# Altium integrated library TI Power Management Supervisor and Reset IC.IntLib: 819 symbols (part 12 of 30)
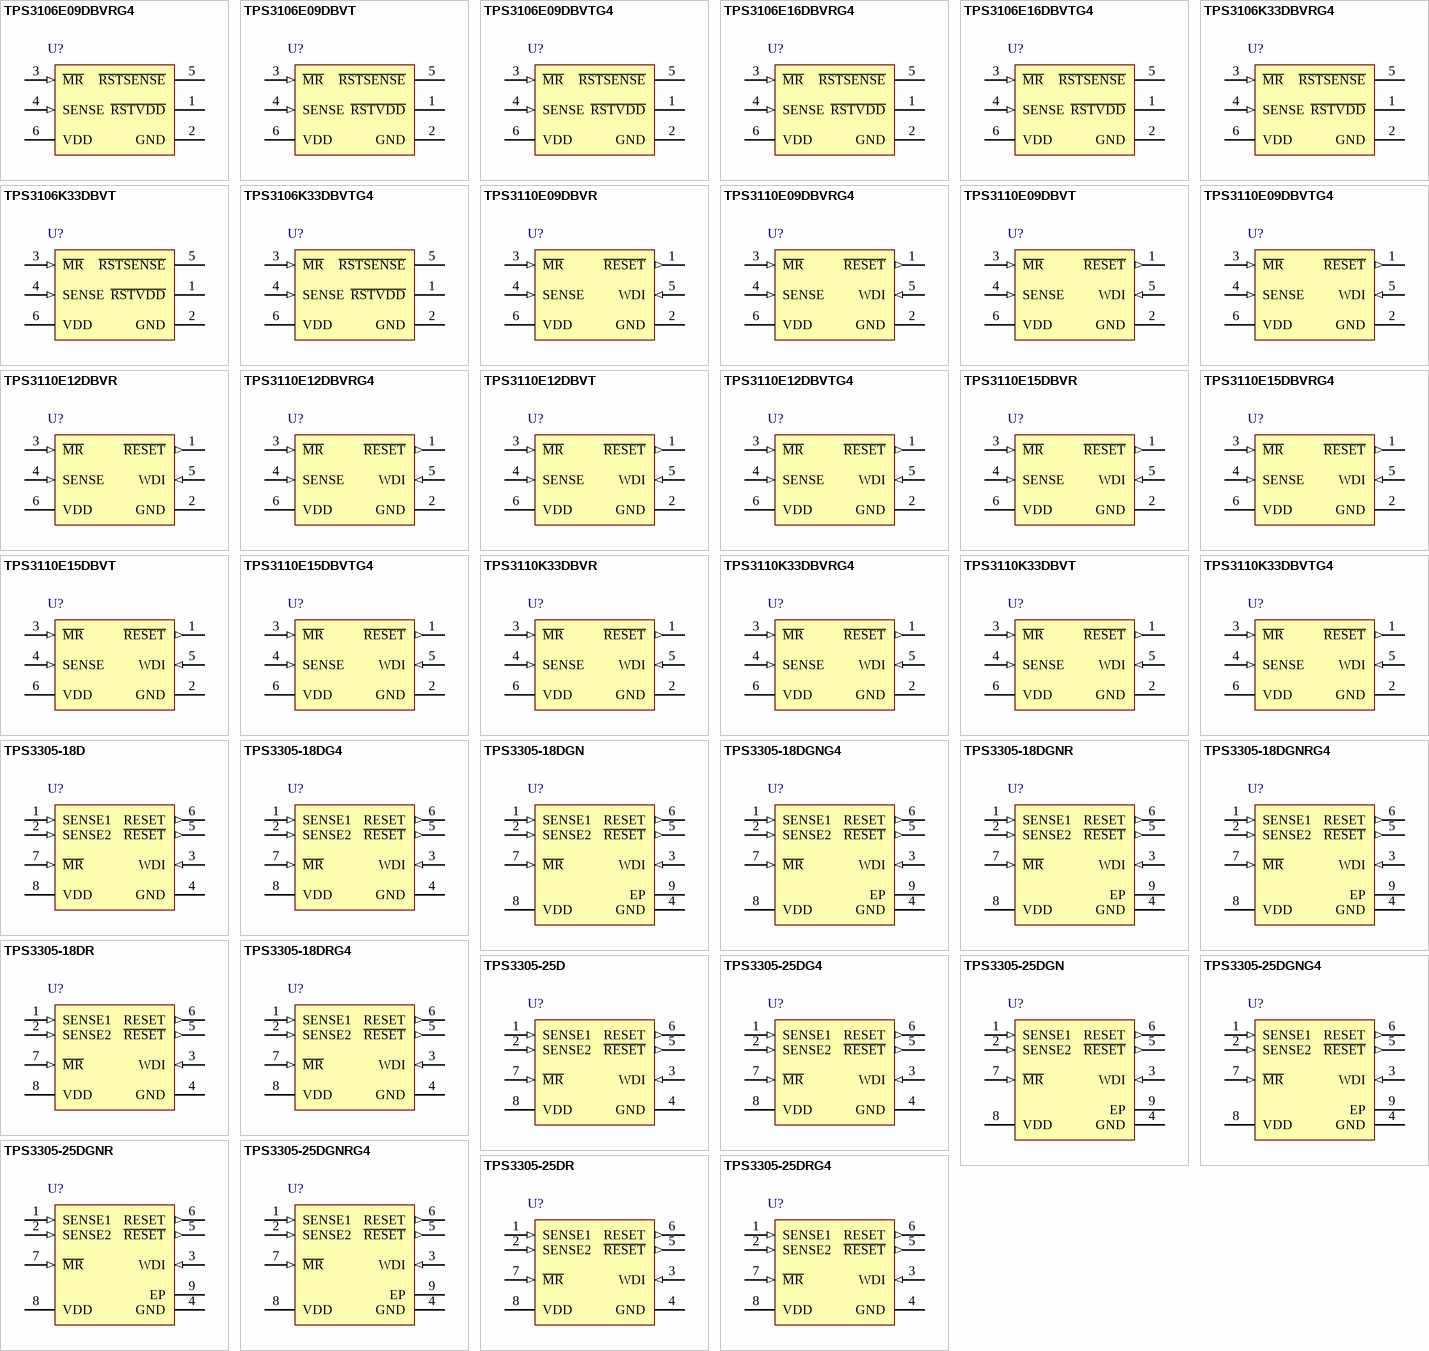
[diagram p32: symbols TPS3106E09DBVRG4 to TPS3305-25DRG4]

## TPS3110E09DBVR
designator U?
Ultra-Low Supply Current / Supply-Voltage Supervisory Circuit, 2 Supply Monitored, -40 to 85 degC, 6-pin SOT-23 (DBV), Green (RoHS & no Sb/Br); Manufacturer: Texas Instruments; PartNumber: TPS3110E09DBVR; # of supplies monitored: 2; Iq(Typ)(uA): 1.2; Output Driver Type / Reset Output: Active-low, Push-pull; Rating: Catalog; Reset Threshold Accuracy(%): 0.75; SubFamily: Supervisor and Reset IC; Threshold Voltage 1 (typ)(Typ)(V): 0.86; Threshold Voltage 2 (typ)(Typ)(V): Adjustable; Time Delay(ms): 130; VCC(Max)(V): 3.3; VCC(Min)(V): 0.4; Watchdog Timer WDI(sec): 1.1; DatasheetVersion: SLVS363E; PackageVersion: revK, Mar-2006; PackageReference: DBV6; PackageDescription: 6-Pin Plastic Small-Outline Package, 2.9 x 1.6 mm Body, 0.95 mm Pitch, 2.8 mm Lead Span; Supplier 1: Digi-Key; Supplier Part Number 1: 296-13400-2-ND; Supplier 2: Digi-Key; Supplier Part Number 2: 296-13400-1-ND; Supplier 3: Digi-Key; Supplier Part Number 3: 296-13400-6-ND; Supplier 4: Newark; Supplier Part Number 4: 77C0264; Supplier 5: Mouser; Supplier Part Number 5: 595-TPS3110E09DBVR; Mounting Technology: Surface Mount; Code_JEDEC: MO-178-AB*; ComponentLink1Description: Datasheet; ComponentLink1URL: http://www.ti.com/general/docs/lit/getliterature.tsp?genericPartNumber=TPS3110E09&fileType=pdf
footprint DBV6_N (SOT23, 6-Leads, Body 2.9x1.6mm, Pitch 0.95mm, Lead Span 2.8mm, IPC Medium Density)
footprint DBV6_L (SOT23, 6-Leads, Body 2.9x1.6mm, Pitch 0.95mm, Lead Span 2.8mm, IPC High Density)
footprint DBV6_M (SOT23, 6-Leads, Body 2.9x1.6mm, Pitch 0.95mm, Lead Span 2.8mm, IPC Low Density)
pins: 1 ~{RESET} (out) "Active-low reset output. Push-pull stage.", 2 GND (power), 3 ~{MR} (in) "Manual-reset input. Pull low to force a reset. R\E\S\E\T\ remains low as long as M\R\ is low and for the timeout period after M\R\ goes high. Leave unconnected or connect to VDD when unused.", 4 SENSE (in) "A reset will be asserted if the voltage at SENSE is lower than 0.551 V. Connect to VDD if unused.", 5 WDI (in) "Watchdog timer input. If WDI remains high or low longer than the time-out period, then reset is triggered. The timer clears when reset is asserted or when WDI sees a rising edge or a falling edge.", 6 VDD (power) "Supply voltage. Powers the device and monitors its own voltage."

## TPS3110E09DBVRG4
designator U?
Ultra-Low Supply Current / Supply-Voltage Supervisory Circuit, 2 Supply Monitored, -40 to 85 degC, 6-pin SOT-23 (DBV), Green (RoHS & no Sb/Br); Manufacturer: Texas Instruments; PartNumber: TPS3110E09DBVRG4; # of supplies monitored: 2; Iq(Typ)(uA): 1.2; Output Driver Type / Reset Output: Active-low, Push-pull; Rating: Catalog; Reset Threshold Accuracy(%): 0.75; SubFamily: Supervisor and Reset IC; Threshold Voltage 1 (typ)(Typ)(V): 0.86; Threshold Voltage 2 (typ)(Typ)(V): Adjustable; Time Delay(ms): 130; VCC(Max)(V): 3.3; VCC(Min)(V): 0.4; Watchdog Timer WDI(sec): 1.1; DatasheetVersion: SLVS363E; PackageVersion: revK, Mar-2006; PackageReference: DBV6; PackageDescription: 6-Pin Plastic Small-Outline Package, 2.9 x 1.6 mm Body, 0.95 mm Pitch, 2.8 mm Lead Span; Supplier 1: Digi-Key; Supplier Part Number 1: TPS3110E09DBVRG4-ND; Supplier 2: Newark; Supplier Part Number 2: 24K5889; Supplier 3: Mouser; Supplier Part Number 3: 595-TPS3110E09DBVRG4; Mounting Technology: Surface Mount; Code_JEDEC: MO-178-AB*; ComponentLink1Description: Datasheet; ComponentLink1URL: http://www.ti.com/general/docs/lit/getliterature.tsp?genericPartNumber=TPS3110E09&fileType=pdf
footprint DBV6_N (SOT23, 6-Leads, Body 2.9x1.6mm, Pitch 0.95mm, Lead Span 2.8mm, IPC Medium Density)
footprint DBV6_L (SOT23, 6-Leads, Body 2.9x1.6mm, Pitch 0.95mm, Lead Span 2.8mm, IPC High Density)
footprint DBV6_M (SOT23, 6-Leads, Body 2.9x1.6mm, Pitch 0.95mm, Lead Span 2.8mm, IPC Low Density)
pins: 1 ~{RESET} (out) "Active-low reset output. Push-pull stage.", 2 GND (power), 3 ~{MR} (in) "Manual-reset input. Pull low to force a reset. R\E\S\E\T\ remains low as long as M\R\ is low and for the timeout period after M\R\ goes high. Leave unconnected or connect to VDD when unused.", 4 SENSE (in) "A reset will be asserted if the voltage at SENSE is lower than 0.551 V. Connect to VDD if unused.", 5 WDI (in) "Watchdog timer input. If WDI remains high or low longer than the time-out period, then reset is triggered. The timer clears when reset is asserted or when WDI sees a rising edge or a falling edge.", 6 VDD (power) "Supply voltage. Powers the device and monitors its own voltage."

## TPS3110E09DBVT
designator U?
Ultra-Low Supply Current / Supply-Voltage Supervisory Circuit, 2 Supply Monitored, -40 to 85 degC, 6-pin SOT-23 (DBV); Manufacturer: Texas Instruments; PartNumber: TPS3110E09DBVT; # of supplies monitored: 2; Iq(Typ)(uA): 1.2; Output Driver Type / Reset Output: Active-low, Push-pull; Rating: Catalog; Reset Threshold Accuracy(%): 0.75; SubFamily: Supervisor and Reset IC; Threshold Voltage 1 (typ)(Typ)(V): 0.86; Threshold Voltage 2 (typ)(Typ)(V): Adjustable; Time Delay(ms): 130; VCC(Max)(V): 3.3; VCC(Min)(V): 0.4; Watchdog Timer WDI(sec): 1.1; DatasheetVersion: SLVS363E; PackageVersion: revK, Mar-2006; PackageReference: DBV6; PackageDescription: 6-Pin Plastic Small-Outline Package, 2.9 x 1.6 mm Body, 0.95 mm Pitch, 2.8 mm Lead Span; Supplier 1: Digi-Key; Supplier Part Number 1: TPS3110E09DBVT-ND; Supplier 2: Newark; Supplier Part Number 2: 77C0265; Supplier 3: Mouser; Supplier Part Number 3: 595-TPS3110E09DBVT; Mounting Technology: Surface Mount; Code_JEDEC: MO-178-AB*; ComponentLink1Description: Datasheet; ComponentLink1URL: http://www.ti.com/general/docs/lit/getliterature.tsp?genericPartNumber=TPS3110E09&fileType=pdf
footprint DBV6_N (SOT23, 6-Leads, Body 2.9x1.6mm, Pitch 0.95mm, Lead Span 2.8mm, IPC Medium Density)
footprint DBV6_L (SOT23, 6-Leads, Body 2.9x1.6mm, Pitch 0.95mm, Lead Span 2.8mm, IPC High Density)
footprint DBV6_M (SOT23, 6-Leads, Body 2.9x1.6mm, Pitch 0.95mm, Lead Span 2.8mm, IPC Low Density)
pins: 1 ~{RESET} (out) "Active-low reset output. Push-pull stage.", 2 GND (power), 3 ~{MR} (in) "Manual-reset input. Pull low to force a reset. R\E\S\E\T\ remains low as long as M\R\ is low and for the timeout period after M\R\ goes high. Leave unconnected or connect to VDD when unused.", 4 SENSE (in) "A reset will be asserted if the voltage at SENSE is lower than 0.551 V. Connect to VDD if unused.", 5 WDI (in) "Watchdog timer input. If WDI remains high or low longer than the time-out period, then reset is triggered. The timer clears when reset is asserted or when WDI sees a rising edge or a falling edge.", 6 VDD (power) "Supply voltage. Powers the device and monitors its own voltage."

## TPS3110E09DBVTG4
designator U?
Ultra-Low Supply Current / Supply-Voltage Supervisory Circuit, 2 Supply Monitored, -40 to 85 degC, 6-pin SOT-23 (DBV); Manufacturer: Texas Instruments; PartNumber: TPS3110E09DBVTG4; # of supplies monitored: 2; Iq(Typ)(uA): 1.2; Output Driver Type / Reset Output: Active-low, Push-pull; Rating: Catalog; Reset Threshold Accuracy(%): 0.75; SubFamily: Supervisor and Reset IC; Threshold Voltage 1 (typ)(Typ)(V): 0.86; Threshold Voltage 2 (typ)(Typ)(V): Adjustable; Time Delay(ms): 130; VCC(Max)(V): 3.3; VCC(Min)(V): 0.4; Watchdog Timer WDI(sec): 1.1; DatasheetVersion: SLVS363E; PackageVersion: revK, Mar-2006; PackageReference: DBV6; PackageDescription: 6-Pin Plastic Small-Outline Package, 2.9 x 1.6 mm Body, 0.95 mm Pitch, 2.8 mm Lead Span; Supplier 1: Digi-Key; Supplier Part Number 1: TPS3110E09DBVTG4-ND; Supplier 2: Newark; Supplier Part Number 2: 24K5890; Supplier 3: Mouser; Supplier Part Number 3: 595-TPS3110E09DBVTG4; Mounting Technology: Surface Mount; Code_JEDEC: MO-178-AB*; ComponentLink1Description: Datasheet; ComponentLink1URL: http://www.ti.com/general/docs/lit/getliterature.tsp?genericPartNumber=TPS3110E09&fileType=pdf
footprint DBV6_N (SOT23, 6-Leads, Body 2.9x1.6mm, Pitch 0.95mm, Lead Span 2.8mm, IPC Medium Density)
footprint DBV6_L (SOT23, 6-Leads, Body 2.9x1.6mm, Pitch 0.95mm, Lead Span 2.8mm, IPC High Density)
footprint DBV6_M (SOT23, 6-Leads, Body 2.9x1.6mm, Pitch 0.95mm, Lead Span 2.8mm, IPC Low Density)
pins: 1 ~{RESET} (out) "Active-low reset output. Push-pull stage.", 2 GND (power), 3 ~{MR} (in) "Manual-reset input. Pull low to force a reset. R\E\S\E\T\ remains low as long as M\R\ is low and for the timeout period after M\R\ goes high. Leave unconnected or connect to VDD when unused.", 4 SENSE (in) "A reset will be asserted if the voltage at SENSE is lower than 0.551 V. Connect to VDD if unused.", 5 WDI (in) "Watchdog timer input. If WDI remains high or low longer than the time-out period, then reset is triggered. The timer clears when reset is asserted or when WDI sees a rising edge or a falling edge.", 6 VDD (power) "Supply voltage. Powers the device and monitors its own voltage."

## TPS3110E12DBVR
designator U?
Ultra-Low Supply Current / Supply-Voltage Supervisory Circuit, 2 Supply Monitored, -40 to 85 degC, 6-pin SOT-23 (DBV), Green (RoHS & no Sb/Br); Manufacturer: Texas Instruments; PartNumber: TPS3110E12DBVR; # of supplies monitored: 2; Iq(Typ)(uA): 1.2; Output Driver Type / Reset Output: Active-low, Push-pull; Rating: Catalog; Reset Threshold Accuracy(%): 0.75; SubFamily: Supervisor and Reset IC; Threshold Voltage 1 (typ)(Typ)(V): 1.142; Threshold Voltage 2 (typ)(Typ)(V): Adjustable; Time Delay(ms): 130; VCC(Max)(V): 3.3; VCC(Min)(V): 0.4; Watchdog Timer WDI(sec): 1.1; DatasheetVersion: SLVS363E; PackageVersion: revK, Mar-2006; PackageReference: DBV6; PackageDescription: 6-Pin Plastic Small-Outline Package, 2.9 x 1.6 mm Body, 0.95 mm Pitch, 2.8 mm Lead Span; Supplier 1: Digi-Key; Supplier Part Number 1: 296-13401-2-ND; Supplier 2: Digi-Key; Supplier Part Number 2: 296-13401-1-ND; Supplier 3: Digi-Key; Supplier Part Number 3: 296-13401-6-ND; Supplier 4: Newark; Supplier Part Number 4: 77C0266; Supplier 5: Mouser; Supplier Part Number 5: 595-TPS3110E12DBVR; Mounting Technology: Surface Mount; Code_JEDEC: MO-178-AB*; ComponentLink1Description: Datasheet; ComponentLink1URL: http://www.ti.com/general/docs/lit/getliterature.tsp?genericPartNumber=TPS3110E12&fileType=pdf
footprint DBV6_N (SOT23, 6-Leads, Body 2.9x1.6mm, Pitch 0.95mm, Lead Span 2.8mm, IPC Medium Density)
footprint DBV6_L (SOT23, 6-Leads, Body 2.9x1.6mm, Pitch 0.95mm, Lead Span 2.8mm, IPC High Density)
footprint DBV6_M (SOT23, 6-Leads, Body 2.9x1.6mm, Pitch 0.95mm, Lead Span 2.8mm, IPC Low Density)
pins: 1 ~{RESET} (out) "Active-low reset output. Push-pull stage.", 2 GND (power), 3 ~{MR} (in) "Manual-reset input. Pull low to force a reset. R\E\S\E\T\ remains low as long as M\R\ is low and for the timeout period after M\R\ goes high. Leave unconnected or connect to VDD when unused.", 4 SENSE (in) "A reset will be asserted if the voltage at SENSE is lower than 0.551 V. Connect to VDD if unused.", 5 WDI (in) "Watchdog timer input. If WDI remains high or low longer than the time-out period, then reset is triggered. The timer clears when reset is asserted or when WDI sees a rising edge or a falling edge.", 6 VDD (power) "Supply voltage. Powers the device and monitors its own voltage."

## TPS3110E12DBVRG4
designator U?
Ultra-Low Supply Current / Supply-Voltage Supervisory Circuit, 2 Supply Monitored, -40 to 85 degC, 6-pin SOT-23 (DBV), Green (RoHS & no Sb/Br); Manufacturer: Texas Instruments; PartNumber: TPS3110E12DBVRG4; # of supplies monitored: 2; Iq(Typ)(uA): 1.2; Output Driver Type / Reset Output: Active-low, Push-pull; Rating: Catalog; Reset Threshold Accuracy(%): 0.75; SubFamily: Supervisor and Reset IC; Threshold Voltage 1 (typ)(Typ)(V): 1.142; Threshold Voltage 2 (typ)(Typ)(V): Adjustable; Time Delay(ms): 130; VCC(Max)(V): 3.3; VCC(Min)(V): 0.4; Watchdog Timer WDI(sec): 1.1; DatasheetVersion: SLVS363E; PackageVersion: revK, Mar-2006; PackageReference: DBV6; PackageDescription: 6-Pin Plastic Small-Outline Package, 2.9 x 1.6 mm Body, 0.95 mm Pitch, 2.8 mm Lead Span; Supplier 1: Digi-Key; Supplier Part Number 1: TPS3110E12DBVRG4-ND; Supplier 2: Newark; Supplier Part Number 2: 24K5891; Supplier 3: Mouser; Supplier Part Number 3: 595-TPS3110E12DBVRG4; Mounting Technology: Surface Mount; Code_JEDEC: MO-178-AB*; ComponentLink1Description: Datasheet; ComponentLink1URL: http://www.ti.com/general/docs/lit/getliterature.tsp?genericPartNumber=TPS3110E12&fileType=pdf
footprint DBV6_N (SOT23, 6-Leads, Body 2.9x1.6mm, Pitch 0.95mm, Lead Span 2.8mm, IPC Medium Density)
footprint DBV6_L (SOT23, 6-Leads, Body 2.9x1.6mm, Pitch 0.95mm, Lead Span 2.8mm, IPC High Density)
footprint DBV6_M (SOT23, 6-Leads, Body 2.9x1.6mm, Pitch 0.95mm, Lead Span 2.8mm, IPC Low Density)
pins: 1 ~{RESET} (out) "Active-low reset output. Push-pull stage.", 2 GND (power), 3 ~{MR} (in) "Manual-reset input. Pull low to force a reset. R\E\S\E\T\ remains low as long as M\R\ is low and for the timeout period after M\R\ goes high. Leave unconnected or connect to VDD when unused.", 4 SENSE (in) "A reset will be asserted if the voltage at SENSE is lower than 0.551 V. Connect to VDD if unused.", 5 WDI (in) "Watchdog timer input. If WDI remains high or low longer than the time-out period, then reset is triggered. The timer clears when reset is asserted or when WDI sees a rising edge or a falling edge.", 6 VDD (power) "Supply voltage. Powers the device and monitors its own voltage."

## TPS3110E12DBVT
designator U?
Ultra-Low Supply Current / Supply-Voltage Supervisory Circuit, 2 Supply Monitored, -40 to 85 degC, 6-pin SOT-23 (DBV), Green (RoHS & no Sb/Br); Manufacturer: Texas Instruments; PartNumber: TPS3110E12DBVT; # of supplies monitored: 2; Iq(Typ)(uA): 1.2; Output Driver Type / Reset Output: Active-low, Push-pull; Rating: Catalog; Reset Threshold Accuracy(%): 0.75; SubFamily: Supervisor and Reset IC; Threshold Voltage 1 (typ)(Typ)(V): 1.142; Threshold Voltage 2 (typ)(Typ)(V): Adjustable; Time Delay(ms): 130; VCC(Max)(V): 3.3; VCC(Min)(V): 0.4; Watchdog Timer WDI(sec): 1.1; DatasheetVersion: SLVS363E; PackageVersion: revK, Mar-2006; PackageReference: DBV6; PackageDescription: 6-Pin Plastic Small-Outline Package, 2.9 x 1.6 mm Body, 0.95 mm Pitch, 2.8 mm Lead Span; Supplier 1: Digi-Key; Supplier Part Number 1: 296-32471-2-ND; Supplier 2: Digi-Key; Supplier Part Number 2: 296-32471-1-ND; Supplier 3: Digi-Key; Supplier Part Number 3: 296-32471-6-ND; Supplier 4: Newark; Supplier Part Number 4: 77C0267; Supplier 5: Mouser; Supplier Part Number 5: 595-TPS3110E12DBVT; Mounting Technology: Surface Mount; Code_JEDEC: MO-178-AB*; ComponentLink1Description: Datasheet; ComponentLink1URL: http://www.ti.com/general/docs/lit/getliterature.tsp?genericPartNumber=TPS3110E12&fileType=pdf
footprint DBV6_N (SOT23, 6-Leads, Body 2.9x1.6mm, Pitch 0.95mm, Lead Span 2.8mm, IPC Medium Density)
footprint DBV6_L (SOT23, 6-Leads, Body 2.9x1.6mm, Pitch 0.95mm, Lead Span 2.8mm, IPC High Density)
footprint DBV6_M (SOT23, 6-Leads, Body 2.9x1.6mm, Pitch 0.95mm, Lead Span 2.8mm, IPC Low Density)
pins: 1 ~{RESET} (out) "Active-low reset output. Push-pull stage.", 2 GND (power), 3 ~{MR} (in) "Manual-reset input. Pull low to force a reset. R\E\S\E\T\ remains low as long as M\R\ is low and for the timeout period after M\R\ goes high. Leave unconnected or connect to VDD when unused.", 4 SENSE (in) "A reset will be asserted if the voltage at SENSE is lower than 0.551 V. Connect to VDD if unused.", 5 WDI (in) "Watchdog timer input. If WDI remains high or low longer than the time-out period, then reset is triggered. The timer clears when reset is asserted or when WDI sees a rising edge or a falling edge.", 6 VDD (power) "Supply voltage. Powers the device and monitors its own voltage."

## TPS3110E12DBVTG4
designator U?
Ultra-Low Supply Current / Supply-Voltage Supervisory Circuit, 2 Supply Monitored, -40 to 85 degC, 6-pin SOT-23 (DBV), Green (RoHS & no Sb/Br); Manufacturer: Texas Instruments; PartNumber: TPS3110E12DBVTG4; # of supplies monitored: 2; Iq(Typ)(uA): 1.2; Output Driver Type / Reset Output: Active-low, Push-pull; Rating: Catalog; Reset Threshold Accuracy(%): 0.75; SubFamily: Supervisor and Reset IC; Threshold Voltage 1 (typ)(Typ)(V): 1.142; Threshold Voltage 2 (typ)(Typ)(V): Adjustable; Time Delay(ms): 130; VCC(Max)(V): 3.3; VCC(Min)(V): 0.4; Watchdog Timer WDI(sec): 1.1; DatasheetVersion: SLVS363E; PackageVersion: revK, Mar-2006; PackageReference: DBV6; PackageDescription: 6-Pin Plastic Small-Outline Package, 2.9 x 1.6 mm Body, 0.95 mm Pitch, 2.8 mm Lead Span; Supplier 1: Digi-Key; Supplier Part Number 1: TPS3110E12DBVTG4-ND; Supplier 2: Newark; Supplier Part Number 2: 24K5892; Supplier 3: Mouser; Supplier Part Number 3: 595-TPS3110E12DBVTG4; Mounting Technology: Surface Mount; Code_JEDEC: MO-178-AB*; ComponentLink1Description: Datasheet; ComponentLink1URL: http://www.ti.com/general/docs/lit/getliterature.tsp?genericPartNumber=TPS3110E12&fileType=pdf
footprint DBV6_N (SOT23, 6-Leads, Body 2.9x1.6mm, Pitch 0.95mm, Lead Span 2.8mm, IPC Medium Density)
footprint DBV6_L (SOT23, 6-Leads, Body 2.9x1.6mm, Pitch 0.95mm, Lead Span 2.8mm, IPC High Density)
footprint DBV6_M (SOT23, 6-Leads, Body 2.9x1.6mm, Pitch 0.95mm, Lead Span 2.8mm, IPC Low Density)
pins: 1 ~{RESET} (out) "Active-low reset output. Push-pull stage.", 2 GND (power), 3 ~{MR} (in) "Manual-reset input. Pull low to force a reset. R\E\S\E\T\ remains low as long as M\R\ is low and for the timeout period after M\R\ goes high. Leave unconnected or connect to VDD when unused.", 4 SENSE (in) "A reset will be asserted if the voltage at SENSE is lower than 0.551 V. Connect to VDD if unused.", 5 WDI (in) "Watchdog timer input. If WDI remains high or low longer than the time-out period, then reset is triggered. The timer clears when reset is asserted or when WDI sees a rising edge or a falling edge.", 6 VDD (power) "Supply voltage. Powers the device and monitors its own voltage."

## TPS3110E15DBVR
designator U?
Ultra-Low Supply Current / Supply-Voltage Supervisory Circuit, 2 Supply Monitored, -40 to 85 degC, 6-pin SOT-23 (DBV), Green (RoHS & no Sb/Br); Manufacturer: Texas Instruments; PartNumber: TPS3110E15DBVR; # of supplies monitored: 2; Iq(Typ)(uA): 1.2; Output Driver Type / Reset Output: Active-low, Push-pull; Rating: Catalog; Reset Threshold Accuracy(%): 0.75; SubFamily: Supervisor and Reset IC; Threshold Voltage 1 (typ)(Typ)(V): 1.434; Threshold Voltage 2 (typ)(Typ)(V): Adjustable; Time Delay(ms): 130; VCC(Max)(V): 3.3; VCC(Min)(V): 0.4; Watchdog Timer WDI(sec): 1.1; DatasheetVersion: SLVS363E; PackageVersion: revK, Mar-2006; PackageReference: DBV6; PackageDescription: 6-Pin Plastic Small-Outline Package, 2.9 x 1.6 mm Body, 0.95 mm Pitch, 2.8 mm Lead Span; Supplier 1: Digi-Key; Supplier Part Number 1: 296-13402-2-ND; Supplier 2: Digi-Key; Supplier Part Number 2: 296-13402-1-ND; Supplier 3: Digi-Key; Supplier Part Number 3: 296-13402-6-ND; Supplier 4: Newark; Supplier Part Number 4: 77C0268; Supplier 5: Mouser; Supplier Part Number 5: 595-TPS3110E15DBVR; Mounting Technology: Surface Mount; Code_JEDEC: MO-178-AB*; ComponentLink1Description: Datasheet; ComponentLink1URL: http://www.ti.com/general/docs/lit/getliterature.tsp?genericPartNumber=TPS3110E15&fileType=pdf
footprint DBV6_N (SOT23, 6-Leads, Body 2.9x1.6mm, Pitch 0.95mm, Lead Span 2.8mm, IPC Medium Density)
footprint DBV6_L (SOT23, 6-Leads, Body 2.9x1.6mm, Pitch 0.95mm, Lead Span 2.8mm, IPC High Density)
footprint DBV6_M (SOT23, 6-Leads, Body 2.9x1.6mm, Pitch 0.95mm, Lead Span 2.8mm, IPC Low Density)
pins: 1 ~{RESET} (out) "Active-low reset output. Push-pull stage.", 2 GND (power), 3 ~{MR} (in) "Manual-reset input. Pull low to force a reset. R\E\S\E\T\ remains low as long as M\R\ is low and for the timeout period after M\R\ goes high. Leave unconnected or connect to VDD when unused.", 4 SENSE (in) "A reset will be asserted if the voltage at SENSE is lower than 0.551 V. Connect to VDD if unused.", 5 WDI (in) "Watchdog timer input. If WDI remains high or low longer than the time-out period, then reset is triggered. The timer clears when reset is asserted or when WDI sees a rising edge or a falling edge.", 6 VDD (power) "Supply voltage. Powers the device and monitors its own voltage."

## TPS3110E15DBVRG4
designator U?
Ultra-Low Supply Current / Supply-Voltage Supervisory Circuit, 2 Supply Monitored, -40 to 85 degC, 6-pin SOT-23 (DBV), Green (RoHS & no Sb/Br); Manufacturer: Texas Instruments; PartNumber: TPS3110E15DBVRG4; # of supplies monitored: 2; Iq(Typ)(uA): 1.2; Output Driver Type / Reset Output: Active-low, Push-pull; Rating: Catalog; Reset Threshold Accuracy(%): 0.75; SubFamily: Supervisor and Reset IC; Threshold Voltage 1 (typ)(Typ)(V): 1.434; Threshold Voltage 2 (typ)(Typ)(V): Adjustable; Time Delay(ms): 130; VCC(Max)(V): 3.3; VCC(Min)(V): 0.4; Watchdog Timer WDI(sec): 1.1; DatasheetVersion: SLVS363E; PackageVersion: revK, Mar-2006; PackageReference: DBV6; PackageDescription: 6-Pin Plastic Small-Outline Package, 2.9 x 1.6 mm Body, 0.95 mm Pitch, 2.8 mm Lead Span; Supplier 1: Digi-Key; Supplier Part Number 1: TPS3110E15DBVRG4-ND; Supplier 2: Newark; Supplier Part Number 2: 71J8091; Supplier 3: Mouser; Supplier Part Number 3: 595-TPS3110E15DBVRG4; Mounting Technology: Surface Mount; Code_JEDEC: MO-178-AB*; ComponentLink1Description: Datasheet; ComponentLink1URL: http://www.ti.com/general/docs/lit/getliterature.tsp?genericPartNumber=TPS3110E15&fileType=pdf
footprint DBV6_N (SOT23, 6-Leads, Body 2.9x1.6mm, Pitch 0.95mm, Lead Span 2.8mm, IPC Medium Density)
footprint DBV6_L (SOT23, 6-Leads, Body 2.9x1.6mm, Pitch 0.95mm, Lead Span 2.8mm, IPC High Density)
footprint DBV6_M (SOT23, 6-Leads, Body 2.9x1.6mm, Pitch 0.95mm, Lead Span 2.8mm, IPC Low Density)
pins: 1 ~{RESET} (out) "Active-low reset output. Push-pull stage.", 2 GND (power), 3 ~{MR} (in) "Manual-reset input. Pull low to force a reset. R\E\S\E\T\ remains low as long as M\R\ is low and for the timeout period after M\R\ goes high. Leave unconnected or connect to VDD when unused.", 4 SENSE (in) "A reset will be asserted if the voltage at SENSE is lower than 0.551 V. Connect to VDD if unused.", 5 WDI (in) "Watchdog timer input. If WDI remains high or low longer than the time-out period, then reset is triggered. The timer clears when reset is asserted or when WDI sees a rising edge or a falling edge.", 6 VDD (power) "Supply voltage. Powers the device and monitors its own voltage."

## TPS3110E15DBVT
designator U?
Ultra-Low Supply Current / Supply-Voltage Supervisory Circuit, 2 Supply Monitored, -40 to 85 degC, 6-pin SOT-23 (DBV), Green (RoHS & no Sb/Br); Manufacturer: Texas Instruments; PartNumber: TPS3110E15DBVT; # of supplies monitored: 2; Iq(Typ)(uA): 1.2; Output Driver Type / Reset Output: Active-low, Push-pull; Rating: Catalog; Reset Threshold Accuracy(%): 0.75; SubFamily: Supervisor and Reset IC; Threshold Voltage 1 (typ)(Typ)(V): 1.434; Threshold Voltage 2 (typ)(Typ)(V): Adjustable; Time Delay(ms): 130; VCC(Max)(V): 3.3; VCC(Min)(V): 0.4; Watchdog Timer WDI(sec): 1.1; DatasheetVersion: SLVS363E; PackageVersion: revK, Mar-2006; PackageReference: DBV6; PackageDescription: 6-Pin Plastic Small-Outline Package, 2.9 x 1.6 mm Body, 0.95 mm Pitch, 2.8 mm Lead Span; Supplier 1: Digi-Key; Supplier Part Number 1: 296-32472-2-ND; Supplier 2: Digi-Key; Supplier Part Number 2: 296-32472-1-ND; Supplier 3: Digi-Key; Supplier Part Number 3: 296-32472-6-ND; Supplier 4: Newark; Supplier Part Number 4: 77C0269; Supplier 5: Mouser; Supplier Part Number 5: 595-TPS3110E15DBVT; Mounting Technology: Surface Mount; Code_JEDEC: MO-178-AB*; ComponentLink1Description: Datasheet; ComponentLink1URL: http://www.ti.com/general/docs/lit/getliterature.tsp?genericPartNumber=TPS3110E15&fileType=pdf
footprint DBV6_N (SOT23, 6-Leads, Body 2.9x1.6mm, Pitch 0.95mm, Lead Span 2.8mm, IPC Medium Density)
footprint DBV6_L (SOT23, 6-Leads, Body 2.9x1.6mm, Pitch 0.95mm, Lead Span 2.8mm, IPC High Density)
footprint DBV6_M (SOT23, 6-Leads, Body 2.9x1.6mm, Pitch 0.95mm, Lead Span 2.8mm, IPC Low Density)
pins: 1 ~{RESET} (out) "Active-low reset output. Push-pull stage.", 2 GND (power), 3 ~{MR} (in) "Manual-reset input. Pull low to force a reset. R\E\S\E\T\ remains low as long as M\R\ is low and for the timeout period after M\R\ goes high. Leave unconnected or connect to VDD when unused.", 4 SENSE (in) "A reset will be asserted if the voltage at SENSE is lower than 0.551 V. Connect to VDD if unused.", 5 WDI (in) "Watchdog timer input. If WDI remains high or low longer than the time-out period, then reset is triggered. The timer clears when reset is asserted or when WDI sees a rising edge or a falling edge.", 6 VDD (power) "Supply voltage. Powers the device and monitors its own voltage."

## TPS3110E15DBVTG4
designator U?
Ultra-Low Supply Current / Supply-Voltage Supervisory Circuit, 2 Supply Monitored, -40 to 85 degC, 6-pin SOT-23 (DBV), Green (RoHS & no Sb/Br); Manufacturer: Texas Instruments; PartNumber: TPS3110E15DBVTG4; # of supplies monitored: 2; Iq(Typ)(uA): 1.2; Output Driver Type / Reset Output: Active-low, Push-pull; Rating: Catalog; Reset Threshold Accuracy(%): 0.75; SubFamily: Supervisor and Reset IC; Threshold Voltage 1 (typ)(Typ)(V): 1.434; Threshold Voltage 2 (typ)(Typ)(V): Adjustable; Time Delay(ms): 130; VCC(Max)(V): 3.3; VCC(Min)(V): 0.4; Watchdog Timer WDI(sec): 1.1; DatasheetVersion: SLVS363E; PackageVersion: revK, Mar-2006; PackageReference: DBV6; PackageDescription: 6-Pin Plastic Small-Outline Package, 2.9 x 1.6 mm Body, 0.95 mm Pitch, 2.8 mm Lead Span; Supplier 1: Digi-Key; Supplier Part Number 1: TPS3110E15DBVTG4-ND; Supplier 2: Newark; Supplier Part Number 2: 70K5723; Supplier 3: Mouser; Supplier Part Number 3: 595-TPS3110E15DBVTG4; Mounting Technology: Surface Mount; Code_JEDEC: MO-178-AB*; ComponentLink1Description: Datasheet; ComponentLink1URL: http://www.ti.com/general/docs/lit/getliterature.tsp?genericPartNumber=TPS3110E15&fileType=pdf
footprint DBV6_N (SOT23, 6-Leads, Body 2.9x1.6mm, Pitch 0.95mm, Lead Span 2.8mm, IPC Medium Density)
footprint DBV6_L (SOT23, 6-Leads, Body 2.9x1.6mm, Pitch 0.95mm, Lead Span 2.8mm, IPC High Density)
footprint DBV6_M (SOT23, 6-Leads, Body 2.9x1.6mm, Pitch 0.95mm, Lead Span 2.8mm, IPC Low Density)
pins: 1 ~{RESET} (out) "Active-low reset output. Push-pull stage.", 2 GND (power), 3 ~{MR} (in) "Manual-reset input. Pull low to force a reset. R\E\S\E\T\ remains low as long as M\R\ is low and for the timeout period after M\R\ goes high. Leave unconnected or connect to VDD when unused.", 4 SENSE (in) "A reset will be asserted if the voltage at SENSE is lower than 0.551 V. Connect to VDD if unused.", 5 WDI (in) "Watchdog timer input. If WDI remains high or low longer than the time-out period, then reset is triggered. The timer clears when reset is asserted or when WDI sees a rising edge or a falling edge.", 6 VDD (power) "Supply voltage. Powers the device and monitors its own voltage."

## TPS3110K33DBVR
designator U?
Ultra-Low Supply Current / Supply-Voltage Supervisory Circuit, 2 Supply Monitored, -40 to 85 degC, 6-pin SOT-23 (DBV), Green (RoHS & no Sb/Br); Manufacturer: Texas Instruments; PartNumber: TPS3110K33DBVR; # of supplies monitored: 2; Iq(Typ)(uA): 1.2; Output Driver Type / Reset Output: Active-low, Push-pull; Rating: Catalog; Reset Threshold Accuracy(%): 0.75; SubFamily: Supervisor and Reset IC; Threshold Voltage 1 (typ)(Typ)(V): 2.941; Threshold Voltage 2 (typ)(Typ)(V): Adjustable; Time Delay(ms): 130; VCC(Max)(V): 3.3; VCC(Min)(V): 0.4; Watchdog Timer WDI(sec): 1.1; DatasheetVersion: SLVS363E; PackageVersion: revK, Mar-2006; PackageReference: DBV6; PackageDescription: 6-Pin Plastic Small-Outline Package, 2.9 x 1.6 mm Body, 0.95 mm Pitch, 2.8 mm Lead Span; Supplier 1: Digi-Key; Supplier Part Number 1: TPS3110K33DBVR-ND; Supplier 2: Newark; Supplier Part Number 2: 77C0270; Supplier 3: Mouser; Supplier Part Number 3: 595-TPS3110K33DBVR; Mounting Technology: Surface Mount; Code_JEDEC: MO-178-AB*; ComponentLink1Description: Datasheet; ComponentLink1URL: http://www.ti.com/general/docs/lit/getliterature.tsp?genericPartNumber=TPS3110K33&fileType=pdf
footprint DBV6_N (SOT23, 6-Leads, Body 2.9x1.6mm, Pitch 0.95mm, Lead Span 2.8mm, IPC Medium Density)
footprint DBV6_L (SOT23, 6-Leads, Body 2.9x1.6mm, Pitch 0.95mm, Lead Span 2.8mm, IPC High Density)
footprint DBV6_M (SOT23, 6-Leads, Body 2.9x1.6mm, Pitch 0.95mm, Lead Span 2.8mm, IPC Low Density)
pins: 1 ~{RESET} (out) "Active-low reset output. Push-pull stage.", 2 GND (power), 3 ~{MR} (in) "Manual-reset input. Pull low to force a reset. R\E\S\E\T\ remains low as long as M\R\ is low and for the timeout period after M\R\ goes high. Leave unconnected or connect to VDD when unused.", 4 SENSE (in) "A reset will be asserted if the voltage at SENSE is lower than 0.551 V. Connect to VDD if unused.", 5 WDI (in) "Watchdog timer input. If WDI remains high or low longer than the time-out period, then reset is triggered. The timer clears when reset is asserted or when WDI sees a rising edge or a falling edge.", 6 VDD (power) "Supply voltage. Powers the device and monitors its own voltage."

## TPS3110K33DBVRG4
designator U?
Ultra-Low Supply Current / Supply-Voltage Supervisory Circuit, 2 Supply Monitored, -40 to 85 degC, 6-pin SOT-23 (DBV), Green (RoHS & no Sb/Br); Manufacturer: Texas Instruments; PartNumber: TPS3110K33DBVRG4; # of supplies monitored: 2; Iq(Typ)(uA): 1.2; Output Driver Type / Reset Output: Active-low, Push-pull; Rating: Catalog; Reset Threshold Accuracy(%): 0.75; SubFamily: Supervisor and Reset IC; Threshold Voltage 1 (typ)(Typ)(V): 2.941; Threshold Voltage 2 (typ)(Typ)(V): Adjustable; Time Delay(ms): 130; VCC(Max)(V): 3.3; VCC(Min)(V): 0.4; Watchdog Timer WDI(sec): 1.1; DatasheetVersion: SLVS363E; PackageVersion: revK, Mar-2006; PackageReference: DBV6; PackageDescription: 6-Pin Plastic Small-Outline Package, 2.9 x 1.6 mm Body, 0.95 mm Pitch, 2.8 mm Lead Span; Supplier 1: Digi-Key; Supplier Part Number 1: TPS3110K33DBVRG4-ND; Supplier 2: Newark; Supplier Part Number 2: 71J8092; Supplier 3: Mouser; Supplier Part Number 3: 595-TPS3110K33DBVRG4; Mounting Technology: Surface Mount; Code_JEDEC: MO-178-AB*; ComponentLink1Description: Datasheet; ComponentLink1URL: http://www.ti.com/general/docs/lit/getliterature.tsp?genericPartNumber=TPS3110K33&fileType=pdf
footprint DBV6_N (SOT23, 6-Leads, Body 2.9x1.6mm, Pitch 0.95mm, Lead Span 2.8mm, IPC Medium Density)
footprint DBV6_L (SOT23, 6-Leads, Body 2.9x1.6mm, Pitch 0.95mm, Lead Span 2.8mm, IPC High Density)
footprint DBV6_M (SOT23, 6-Leads, Body 2.9x1.6mm, Pitch 0.95mm, Lead Span 2.8mm, IPC Low Density)
pins: 1 ~{RESET} (out) "Active-low reset output. Push-pull stage.", 2 GND (power), 3 ~{MR} (in) "Manual-reset input. Pull low to force a reset. R\E\S\E\T\ remains low as long as M\R\ is low and for the timeout period after M\R\ goes high. Leave unconnected or connect to VDD when unused.", 4 SENSE (in) "A reset will be asserted if the voltage at SENSE is lower than 0.551 V. Connect to VDD if unused.", 5 WDI (in) "Watchdog timer input. If WDI remains high or low longer than the time-out period, then reset is triggered. The timer clears when reset is asserted or when WDI sees a rising edge or a falling edge.", 6 VDD (power) "Supply voltage. Powers the device and monitors its own voltage."

## TPS3110K33DBVT
designator U?
Ultra-Low Supply Current / Supply-Voltage Supervisory Circuit, 2 Supply Monitored, -40 to 85 degC, 6-pin SOT-23 (DBV), Green (RoHS & no Sb/Br); Manufacturer: Texas Instruments; PartNumber: TPS3110K33DBVT; # of supplies monitored: 2; Iq(Typ)(uA): 1.2; Output Driver Type / Reset Output: Active-low, Push-pull; Rating: Catalog; Reset Threshold Accuracy(%): 0.75; SubFamily: Supervisor and Reset IC; Threshold Voltage 1 (typ)(Typ)(V): 2.941; Threshold Voltage 2 (typ)(Typ)(V): Adjustable; Time Delay(ms): 130; VCC(Max)(V): 3.3; VCC(Min)(V): 0.4; Watchdog Timer WDI(sec): 1.1; DatasheetVersion: SLVS363E; PackageVersion: revK, Mar-2006; PackageReference: DBV6; PackageDescription: 6-Pin Plastic Small-Outline Package, 2.9 x 1.6 mm Body, 0.95 mm Pitch, 2.8 mm Lead Span; Supplier 1: Digi-Key; Supplier Part Number 1: 296-13403-2-ND; Supplier 2: Digi-Key; Supplier Part Number 2: 296-13403-1-ND; Supplier 3: Digi-Key; Supplier Part Number 3: 296-13403-6-ND; Supplier 4: Farnell; Supplier Part Number 4: 8457042; Supplier 5: Newark; Supplier Part Number 5: 77C0271; Supplier 6: Mouser; Supplier Part Number 6: 595-TPS3110K33DBVT; Mounting Technology: Surface Mount; Code_JEDEC: MO-178-AB*; ComponentLink1Description: Datasheet; ComponentLink1URL: http://www.ti.com/general/docs/lit/getliterature.tsp?genericPartNumber=TPS3110K33&fileType=pdf
footprint DBV6_N (SOT23, 6-Leads, Body 2.9x1.6mm, Pitch 0.95mm, Lead Span 2.8mm, IPC Medium Density)
footprint DBV6_L (SOT23, 6-Leads, Body 2.9x1.6mm, Pitch 0.95mm, Lead Span 2.8mm, IPC High Density)
footprint DBV6_M (SOT23, 6-Leads, Body 2.9x1.6mm, Pitch 0.95mm, Lead Span 2.8mm, IPC Low Density)
pins: 1 ~{RESET} (out) "Active-low reset output. Push-pull stage.", 2 GND (power), 3 ~{MR} (in) "Manual-reset input. Pull low to force a reset. R\E\S\E\T\ remains low as long as M\R\ is low and for the timeout period after M\R\ goes high. Leave unconnected or connect to VDD when unused.", 4 SENSE (in) "A reset will be asserted if the voltage at SENSE is lower than 0.551 V. Connect to VDD if unused.", 5 WDI (in) "Watchdog timer input. If WDI remains high or low longer than the time-out period, then reset is triggered. The timer clears when reset is asserted or when WDI sees a rising edge or a falling edge.", 6 VDD (power) "Supply voltage. Powers the device and monitors its own voltage."

## TPS3110K33DBVTG4
designator U?
Ultra-Low Supply Current / Supply-Voltage Supervisory Circuit, 2 Supply Monitored, -40 to 85 degC, 6-pin SOT-23 (DBV), Green (RoHS & no Sb/Br); Manufacturer: Texas Instruments; PartNumber: TPS3110K33DBVTG4; # of supplies monitored: 2; Iq(Typ)(uA): 1.2; Output Driver Type / Reset Output: Active-low, Push-pull; Rating: Catalog; Reset Threshold Accuracy(%): 0.75; SubFamily: Supervisor and Reset IC; Threshold Voltage 1 (typ)(Typ)(V): 2.941; Threshold Voltage 2 (typ)(Typ)(V): Adjustable; Time Delay(ms): 130; VCC(Max)(V): 3.3; VCC(Min)(V): 0.4; Watchdog Timer WDI(sec): 1.1; DatasheetVersion: SLVS363E; PackageVersion: revK, Mar-2006; PackageReference: DBV6; PackageDescription: 6-Pin Plastic Small-Outline Package, 2.9 x 1.6 mm Body, 0.95 mm Pitch, 2.8 mm Lead Span; Supplier 1: Digi-Key; Supplier Part Number 1: TPS3110K33DBVTG4-ND; Supplier 2: Newark; Supplier Part Number 2: 71J8093; Supplier 3: Mouser; Supplier Part Number 3: 595-TPS3110K33DBVTG4; Mounting Technology: Surface Mount; Code_JEDEC: MO-178-AB*; ComponentLink1Description: Datasheet; ComponentLink1URL: http://www.ti.com/general/docs/lit/getliterature.tsp?genericPartNumber=TPS3110K33&fileType=pdf
footprint DBV6_N (SOT23, 6-Leads, Body 2.9x1.6mm, Pitch 0.95mm, Lead Span 2.8mm, IPC Medium Density)
footprint DBV6_L (SOT23, 6-Leads, Body 2.9x1.6mm, Pitch 0.95mm, Lead Span 2.8mm, IPC High Density)
footprint DBV6_M (SOT23, 6-Leads, Body 2.9x1.6mm, Pitch 0.95mm, Lead Span 2.8mm, IPC Low Density)
pins: 1 ~{RESET} (out) "Active-low reset output. Push-pull stage.", 2 GND (power), 3 ~{MR} (in) "Manual-reset input. Pull low to force a reset. R\E\S\E\T\ remains low as long as M\R\ is low and for the timeout period after M\R\ goes high. Leave unconnected or connect to VDD when unused.", 4 SENSE (in) "A reset will be asserted if the voltage at SENSE is lower than 0.551 V. Connect to VDD if unused.", 5 WDI (in) "Watchdog timer input. If WDI remains high or low longer than the time-out period, then reset is triggered. The timer clears when reset is asserted or when WDI sees a rising edge or a falling edge.", 6 VDD (power) "Supply voltage. Powers the device and monitors its own voltage."

## TPS3305-18D
designator U?
Dual Processor Supervisory Circuit, 2 Supply Monitored, -40 to 85 degC, 8-pin SOIC (D), Green (RoHS & no Sb/Br); Manufacturer: Texas Instruments; PartNumber: TPS3305-18D; # of supplies monitored: 2; Iq(Typ)(uA): 15; Output Driver Type / Reset Output: Active-low, Push-pull; Rating: Catalog; Reset Threshold Accuracy(%): 2.7; SubFamily: Supervisor and Reset IC; Threshold Voltage 1 (typ)(Typ)(V): 2.93; Threshold Voltage 2 (typ)(Typ)(V): 1.68; Time Delay(ms): 200; VCC(Max)(V): 6; Watchdog Timer WDI(sec): 1.6; DatasheetVersion: SLVS198C; PackageVersion: revM, Jun-2011; PackageReference: D8; PackageDescription: 8-Pin Plastic Small Outline Integrated Circuit, 4.9 x 3.9 mm, Pitch 1.27 mm Pitch; Supplier 1: Digi-Key; Supplier Part Number 1: 296-2617-5-ND; Supplier 2: Newark; Supplier Part Number 2: 18C3456; Supplier 3: Mouser; Supplier Part Number 3: 595-TPS3305-18D; VCC(Min)(V): 2.7; Mounting Technology: Surface Mount; Code_JEDEC: MS-012AA; ComponentLink1Description: Datasheet; ComponentLink1URL: http://www.ti.com/general/docs/lit/getliterature.tsp?genericPartNumber=TPS3305-18&fileType=pdf
footprint D8_N (SOIC, 8-Leads, Body 4.9x3.9mm, Pitch 1.27mm, IPC Medium Density)
footprint D8_L (SOIC, 8-Leads, Body 4.9x3.9mm, Pitch 1.27mm, IPC High Density)
footprint D8_M (SOIC, 8-Leads, Body 4.9x3.9mm, Pitch 1.27mm, IPC Low Density)
pins: 1 SENSE1 (in) "Sense voltage input 1", 2 SENSE2 (in) "Sense voltage input 2", 3 WDI (in) "Watchdog timer input", 4 GND (power) "Ground", 5 ~{RESET} (out) "Active-low reset output", 6 RESET (out) "Active-high reset output", 7 ~{MR} (in) "Manual reset", 8 VDD (power) "Supply voltage"

## TPS3305-18DG4
designator U?
Dual Processor Supervisory Circuit, 2 Supply Monitored, -40 to 85 degC, 8-pin SOIC (D), Green (RoHS & no Sb/Br); Manufacturer: Texas Instruments; PartNumber: TPS3305-18DG4; # of supplies monitored: 2; Iq(Typ)(uA): 15; Output Driver Type / Reset Output: Active-low, Push-pull; Rating: Catalog; Reset Threshold Accuracy(%): 2.7; SubFamily: Supervisor and Reset IC; Threshold Voltage 1 (typ)(Typ)(V): 2.93; Threshold Voltage 2 (typ)(Typ)(V): 1.68; Time Delay(ms): 200; VCC(Max)(V): 6; Watchdog Timer WDI(sec): 1.6; DatasheetVersion: SLVS198C; PackageVersion: revM, Jun-2011; PackageReference: D8; PackageDescription: 8-Pin Plastic Small Outline Integrated Circuit, 4.9 x 3.9 mm, Pitch 1.27 mm Pitch; Supplier 1: Digi-Key; Supplier Part Number 1: TPS3305-18DG4-ND; Supplier 2: Farnell; Supplier Part Number 2: 1207320; Supplier 3: Newark; Supplier Part Number 3: 24M8515; Supplier 4: Newark; Supplier Part Number 4: 54K1614; Supplier 5: Mouser; Supplier Part Number 5: 595-TPS3305-18DG4; VCC(Min)(V): 2.7; Mounting Technology: Surface Mount; Code_JEDEC: MS-012AA; ComponentLink1Description: Datasheet; ComponentLink1URL: http://www.ti.com/general/docs/lit/getliterature.tsp?genericPartNumber=TPS3305-18&fileType=pdf
footprint D8_N (SOIC, 8-Leads, Body 4.9x3.9mm, Pitch 1.27mm, IPC Medium Density)
footprint D8_L (SOIC, 8-Leads, Body 4.9x3.9mm, Pitch 1.27mm, IPC High Density)
footprint D8_M (SOIC, 8-Leads, Body 4.9x3.9mm, Pitch 1.27mm, IPC Low Density)
pins: 1 SENSE1 (in) "Sense voltage input 1", 2 SENSE2 (in) "Sense voltage input 2", 3 WDI (in) "Watchdog timer input", 4 GND (power) "Ground", 5 ~{RESET} (out) "Active-low reset output", 6 RESET (out) "Active-high reset output", 7 ~{MR} (in) "Manual reset", 8 VDD (power) "Supply voltage"

## TPS3305-18DGN
designator U?
Dual Processor Supervisory Circuit, 2 Supply Monitored, -40 to 85 degC, 8-pin MSOP-PowerPAD (DGN), Green (RoHS & no Sb/Br); Manufacturer: Texas Instruments; PartNumber: TPS3305-18DGN; # of supplies monitored: 2; Iq(Typ)(uA): 15; Output Driver Type / Reset Output: Active-low, Push-pull; Rating: Catalog; Reset Threshold Accuracy(%): 2.7; SubFamily: Supervisor and Reset IC; Threshold Voltage 1 (typ)(Typ)(V): 2.93; Threshold Voltage 2 (typ)(Typ)(V): 1.68; Time Delay(ms): 200; VCC(Max)(V): 6; Watchdog Timer WDI(sec): 1.6; DatasheetVersion: SLVS198C; PackageVersion: revF, May-2011; PackageReference: DGN8-1760X1425TP; PackageDescription: 8-Pin PowerPAD Plastic Small Outline Package 3 x 3 mm Body ,0.65 mm Pitch, Exposed Pad; Supplier 1: Digi-Key; Supplier Part Number 1: 296-26932-5-ND; Supplier 2: Farnell; Supplier Part Number 2: 1470540; Supplier 3: Newark; Supplier Part Number 3: 72C4111; Supplier 4: Mouser; Supplier Part Number 4: 595-TPS3305-18DGN; VCC(Min)(V): 2.7; Mounting Technology: Surface Mount; Code_JEDEC: MO-187-AA-T; ComponentLink1Description: Datasheet; ComponentLink1URL: http://www.ti.com/general/docs/lit/getliterature.tsp?genericPartNumber=TPS3305-18&fileType=pdf
footprint DGN8-1760X1425TP_N (TSOP, 8-Leads, Body 3x3mm, Pitch 0.65mm, Thermal Pad 1.89x1.57mm, IPC Medium Density)
footprint DGN8-1760X1425TP_L (TSOP, 8-Leads, Body 3x3mm, Pitch 0.65mm, Thermal Pad 1.89x1.57mm, IPC High Density)
footprint DGN8-1760X1425TP_M (TSOP, 8-Leads, Body 3x3mm, Pitch 0.65mm, Thermal Pad 1.89x1.57mm, IPC Low Density)
pins: 1 SENSE1 (in) "Sense voltage input 1", 2 SENSE2 (in) "Sense voltage input 2", 3 WDI (in) "Watchdog timer input", 4 GND (power) "Ground", 5 ~{RESET} (out) "Active-low reset output", 6 RESET (out) "Active-high reset output", 7 ~{MR} (in) "Manual reset", 8 VDD (power) "Supply voltage", 9 EP "Thermal Pad"

## TPS3305-18DGNG4
designator U?
Dual Processor Supervisory Circuit, 2 Supply Monitored, -40 to 85 degC, 8-pin MSOP-PowerPAD (DGN), Green (RoHS & no Sb/Br); Manufacturer: Texas Instruments; PartNumber: TPS3305-18DGNG4; # of supplies monitored: 2; Iq(Typ)(uA): 15; Output Driver Type / Reset Output: Active-low, Push-pull; Rating: Catalog; Reset Threshold Accuracy(%): 2.7; SubFamily: Supervisor and Reset IC; Threshold Voltage 1 (typ)(Typ)(V): 2.93; Threshold Voltage 2 (typ)(Typ)(V): 1.68; Time Delay(ms): 200; VCC(Max)(V): 6; Watchdog Timer WDI(sec): 1.6; DatasheetVersion: SLVS198C; PackageVersion: revF, May-2011; PackageReference: DGN8-1760X1425TP; PackageDescription: 8-Pin PowerPAD Plastic Small Outline Package 3 x 3 mm Body ,0.65 mm Pitch, Exposed Pad; Supplier 1: Digi-Key; Supplier Part Number 1: TPS3305-18DGNG4-ND; Supplier 2: Newark; Supplier Part Number 2: 66K4517; Supplier 3: Mouser; Supplier Part Number 3: 595-TPS3305-18DGNG4; VCC(Min)(V): 2.7; Mounting Technology: Surface Mount; Code_JEDEC: MO-187-AA-T; ComponentLink1Description: Datasheet; ComponentLink1URL: http://www.ti.com/general/docs/lit/getliterature.tsp?genericPartNumber=TPS3305-18&fileType=pdf
footprint DGN8-1760X1425TP_N (TSOP, 8-Leads, Body 3x3mm, Pitch 0.65mm, Thermal Pad 1.89x1.57mm, IPC Medium Density)
footprint DGN8-1760X1425TP_L (TSOP, 8-Leads, Body 3x3mm, Pitch 0.65mm, Thermal Pad 1.89x1.57mm, IPC High Density)
footprint DGN8-1760X1425TP_M (TSOP, 8-Leads, Body 3x3mm, Pitch 0.65mm, Thermal Pad 1.89x1.57mm, IPC Low Density)
pins: 1 SENSE1 (in) "Sense voltage input 1", 2 SENSE2 (in) "Sense voltage input 2", 3 WDI (in) "Watchdog timer input", 4 GND (power) "Ground", 5 ~{RESET} (out) "Active-low reset output", 6 RESET (out) "Active-high reset output", 7 ~{MR} (in) "Manual reset", 8 VDD (power) "Supply voltage", 9 EP "Thermal Pad"

## TPS3305-18DGNR
designator U?
Dual Processor Supervisory Circuit, 2 Supply Monitored, -40 to 85 degC, 8-pin MSOP-PowerPAD (DGN), Green (RoHS & no Sb/Br); Manufacturer: Texas Instruments; PartNumber: TPS3305-18DGNR; # of supplies monitored: 2; Iq(Typ)(uA): 15; Output Driver Type / Reset Output: Active-low, Push-pull; Rating: Catalog; Reset Threshold Accuracy(%): 2.7; SubFamily: Supervisor and Reset IC; Threshold Voltage 1 (typ)(Typ)(V): 2.93; Threshold Voltage 2 (typ)(Typ)(V): 1.68; Time Delay(ms): 200; VCC(Max)(V): 6; Watchdog Timer WDI(sec): 1.6; DatasheetVersion: SLVS198C; PackageVersion: revF, May-2011; PackageReference: DGN8-1760X1425TP; PackageDescription: 8-Pin PowerPAD Plastic Small Outline Package 3 x 3 mm Body ,0.65 mm Pitch, Exposed Pad; Supplier 1: Digi-Key; Supplier Part Number 1: 296-3299-2-ND; Supplier 2: Digi-Key; Supplier Part Number 2: 296-3299-1-ND; Supplier 3: Digi-Key; Supplier Part Number 3: 296-3299-6-ND; Supplier 4: Newark; Supplier Part Number 4: 77C0295; Supplier 5: Mouser; Supplier Part Number 5: 595-TPS3305-18DGNR; VCC(Min)(V): 2.7; Mounting Technology: Surface Mount; Code_JEDEC: MO-187-AA-T; ComponentLink1Description: Datasheet; ComponentLink1URL: http://www.ti.com/general/docs/lit/getliterature.tsp?genericPartNumber=TPS3305-18&fileType=pdf
footprint DGN8-1760X1425TP_N (TSOP, 8-Leads, Body 3x3mm, Pitch 0.65mm, Thermal Pad 1.89x1.57mm, IPC Medium Density)
footprint DGN8-1760X1425TP_L (TSOP, 8-Leads, Body 3x3mm, Pitch 0.65mm, Thermal Pad 1.89x1.57mm, IPC High Density)
footprint DGN8-1760X1425TP_M (TSOP, 8-Leads, Body 3x3mm, Pitch 0.65mm, Thermal Pad 1.89x1.57mm, IPC Low Density)
pins: 1 SENSE1 (in) "Sense voltage input 1", 2 SENSE2 (in) "Sense voltage input 2", 3 WDI (in) "Watchdog timer input", 4 GND (power) "Ground", 5 ~{RESET} (out) "Active-low reset output", 6 RESET (out) "Active-high reset output", 7 ~{MR} (in) "Manual reset", 8 VDD (power) "Supply voltage", 9 EP "Thermal Pad"

## TPS3305-18DGNRG4
designator U?
Dual Processor Supervisory Circuit, 2 Supply Monitored, -40 to 85 degC, 8-pin MSOP-PowerPAD (DGN), Green (RoHS & no Sb/Br); Manufacturer: Texas Instruments; PartNumber: TPS3305-18DGNRG4; # of supplies monitored: 2; Iq(Typ)(uA): 15; Output Driver Type / Reset Output: Active-low, Push-pull; Rating: Catalog; Reset Threshold Accuracy(%): 2.7; SubFamily: Supervisor and Reset IC; Threshold Voltage 1 (typ)(Typ)(V): 2.93; Threshold Voltage 2 (typ)(Typ)(V): 1.68; Time Delay(ms): 200; VCC(Max)(V): 6; Watchdog Timer WDI(sec): 1.6; DatasheetVersion: SLVS198C; PackageVersion: revF, May-2011; PackageReference: DGN8-1760X1425TP; PackageDescription: 8-Pin PowerPAD Plastic Small Outline Package 3 x 3 mm Body ,0.65 mm Pitch, Exposed Pad; Supplier 1: Digi-Key; Supplier Part Number 1: TPS3305-18DGNRG4-ND; Supplier 2: Newark; Supplier Part Number 2: 71J8097; Supplier 3: Mouser; Supplier Part Number 3: 595-TPS3305-18DGNRG4; VCC(Min)(V): 2.7; Mounting Technology: Surface Mount; Code_JEDEC: MO-187-AA-T; ComponentLink1Description: Datasheet; ComponentLink1URL: http://www.ti.com/general/docs/lit/getliterature.tsp?genericPartNumber=TPS3305-18&fileType=pdf
footprint DGN8-1760X1425TP_N (TSOP, 8-Leads, Body 3x3mm, Pitch 0.65mm, Thermal Pad 1.89x1.57mm, IPC Medium Density)
footprint DGN8-1760X1425TP_L (TSOP, 8-Leads, Body 3x3mm, Pitch 0.65mm, Thermal Pad 1.89x1.57mm, IPC High Density)
footprint DGN8-1760X1425TP_M (TSOP, 8-Leads, Body 3x3mm, Pitch 0.65mm, Thermal Pad 1.89x1.57mm, IPC Low Density)
pins: 1 SENSE1 (in) "Sense voltage input 1", 2 SENSE2 (in) "Sense voltage input 2", 3 WDI (in) "Watchdog timer input", 4 GND (power) "Ground", 5 ~{RESET} (out) "Active-low reset output", 6 RESET (out) "Active-high reset output", 7 ~{MR} (in) "Manual reset", 8 VDD (power) "Supply voltage", 9 EP "Thermal Pad"

## TPS3305-18DR
designator U?
Dual Processor Supervisory Circuit, 2 Supply Monitored, -40 to 85 degC, 8-pin SOIC (D), Green (RoHS & no Sb/Br); Manufacturer: Texas Instruments; PartNumber: TPS3305-18DR; # of supplies monitored: 2; Iq(Typ)(uA): 15; Output Driver Type / Reset Output: Active-low, Push-pull; Rating: Catalog; Reset Threshold Accuracy(%): 2.7; SubFamily: Supervisor and Reset IC; Threshold Voltage 1 (typ)(Typ)(V): 2.93; Threshold Voltage 2 (typ)(Typ)(V): 1.68; Time Delay(ms): 200; VCC(Max)(V): 6; Watchdog Timer WDI(sec): 1.6; DatasheetVersion: SLVS198C; PackageVersion: revM, Jun-2011; PackageReference: D8; PackageDescription: 8-Pin Plastic Small Outline Integrated Circuit, 4.9 x 3.9 mm, Pitch 1.27 mm Pitch; Supplier 1: Digi-Key; Supplier Part Number 1: 296-26933-2-ND; Supplier 2: Digi-Key; Supplier Part Number 2: 296-26933-1-ND; Supplier 3: Digi-Key; Supplier Part Number 3: 296-26933-6-ND; Supplier 4: Newark; Supplier Part Number 4: 77C0296; Supplier 5: Mouser; Supplier Part Number 5: 595-TPS3305-18DR; VCC(Min)(V): 2.7; Mounting Technology: Surface Mount; Code_JEDEC: MS-012AA; ComponentLink1Description: Datasheet; ComponentLink1URL: http://www.ti.com/general/docs/lit/getliterature.tsp?genericPartNumber=TPS3305-18&fileType=pdf
footprint D8_N (SOIC, 8-Leads, Body 4.9x3.9mm, Pitch 1.27mm, IPC Medium Density)
footprint D8_L (SOIC, 8-Leads, Body 4.9x3.9mm, Pitch 1.27mm, IPC High Density)
footprint D8_M (SOIC, 8-Leads, Body 4.9x3.9mm, Pitch 1.27mm, IPC Low Density)
pins: 1 SENSE1 (in) "Sense voltage input 1", 2 SENSE2 (in) "Sense voltage input 2", 3 WDI (in) "Watchdog timer input", 4 GND (power) "Ground", 5 ~{RESET} (out) "Active-low reset output", 6 RESET (out) "Active-high reset output", 7 ~{MR} (in) "Manual reset", 8 VDD (power) "Supply voltage"